# Altium footprint library Discrete.PcbLib: 3 footprints
Each footprint in its own frame and in the unit in brackets; x right, y up, seen from the top. Pads: shape width x height; smd on the part's side, far side on the other; paste and mask are expansions set on the pad; w line width, h text height; cw(c..) or ccw(c..) is an arc to the next point about the centre after c.
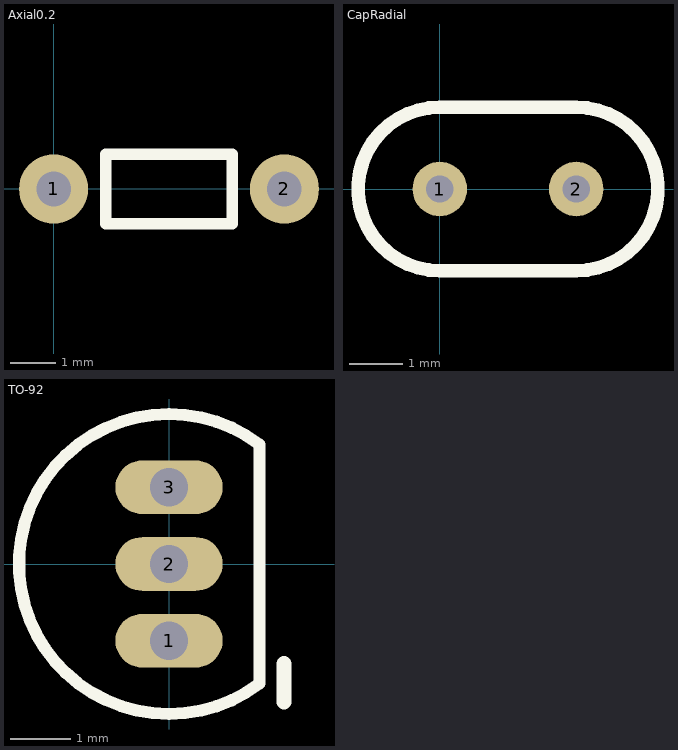
[diagram p0: the footprints below, top view; thin cyan lines are the x and y axes]

## Axial0.2 [mil]
pads (2):
  round 60 hole 30: 1(0,0) 2(200,0)
Top Overlay:
  lines w10: 45,-30 155,-30 155,30 45,30 45,-30

## CapRadial [mil]
height 300
pads (2):
  round 40 hole 20: 1(0,0) 2(100,0)
Top Overlay:
  lines w10: 0,-60 cw(c0,0) 0,60 100,60 cw(c100,0) 100,-60 0,-60

## TO-92 [mil] "TO, Flat Index; 3 In-Line, Axial Leads; Body Dia. 4.5mm; Leads 0.51 x 0.48 mm (max)"
height 300
pads (3):
  oval 70x35 hole 25: 1(0,-50) 2(0,0) 3(0,50)
Top Overlay:
  lines w7.87: 59.06,-77.95 cw(c0,0) 59.06,77.95 59.05,-77.95
  lines w10: 75,-90 75,-65